# EAGLE library part TDA19988BHN/C1,557 (library Revolve)
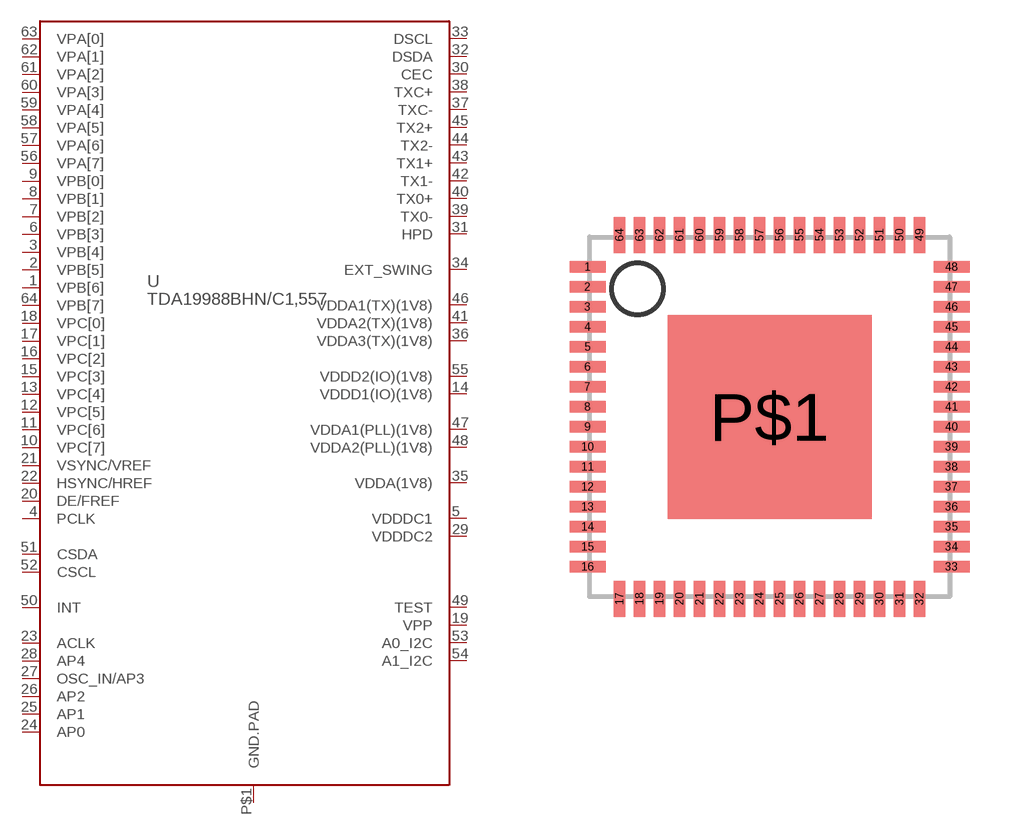
[diagram p8: symbol with the pads of SOT804-4; footprint SOT804-4]

Designator prefix -

## TDA19988BHN/C1,557  [SOT804-4]
1  VPB[6]
2  VPB[5]
3  VPB[4]
4  PCLK
5  VDDDC1
6  VPB[3]
7  VPB[2]
8  VPB[1]
9  VPB[0]
10  VPC[7]
11  VPC[6]
12  VPC[5]
13  VPC[4]
14  VDDD1(IO)(1V8)
15  VPC[3]
16  VPC[2]
17  VPC[1]
18  VPC[0]
19  VPP
20  DE/FREF
21  VSYNC/VREF
22  HSYNC/HREF
23  ACLK
24  AP0
25  AP1
26  AP2
27  OSC_IN/AP3
28  AP4
29  VDDDC2
30  CEC
31  HPD
32  DSDA
33  DSCL
34  EXT_SWING
35  VDDA(1V8)
36  VDDA3(TX)(1V8)
37  TXC-
38  TXC+
39  TX0-
40  TX0+
41  VDDA2(TX)(1V8)
42  TX1-
43  TX1+
44  TX2-
45  TX2+
46  VDDA1(TX)(1V8)
47  VDDA1(PLL)(1V8)
48  VDDA2(PLL)(1V8)
49  TEST
50  INT
51  CSDA
52  CSCL
53  A0_I2C
54  A1_I2C
55  VDDD2(IO)(1V8)
56  VPA[7]
57  VPA[6]
58  VPA[5]
59  VPA[4]
60  VPA[3]
61  VPA[2]
62  VPA[1]
63  VPA[0]
64  VPB[7]
P$1  GND.PAD

## Footprint SOT804-4 (pad centres in mm)
smd 0.9 x 0.29: 1 -4.55,3.75; 2 -4.55,3.25; 3 -4.55,2.75; 4 -4.55,2.25; 5 -4.55,1.75; 6 -4.55,1.25; 7 -4.55,0.75; 8 -4.55,0.25; 9 -4.55,-0.25; 10 -4.55,-0.75; 11 -4.55,-1.25; 12 -4.55,-1.75; 13 -4.55,-2.25; 14 -4.55,-2.75; 15 -4.55,-3.25; 16 -4.55,-3.75; 33 4.55,-3.75; 34 4.55,-3.25; 35 4.55,-2.75; 36 4.55,-2.25; 37 4.55,-1.75; 38 4.55,-1.25; 39 4.55,-0.75; 40 4.55,-0.25; 41 4.55,0.25; 42 4.55,0.75; 43 4.55,1.25; 44 4.55,1.75; 45 4.55,2.25; 46 4.55,2.75; 47 4.55,3.25; 48 4.55,3.75
smd 0.29 x 0.9: 17 -3.75,-4.55; 18 -3.25,-4.55; 19 -2.75,-4.55; 20 -2.25,-4.55; 21 -1.75,-4.55; 22 -1.25,-4.55; 23 -0.75,-4.55; 24 -0.25,-4.55; 25 0.25,-4.55; 26 0.75,-4.55; 27 1.25,-4.55; 28 1.75,-4.55; 29 2.25,-4.55; 30 2.75,-4.55; 31 3.25,-4.55; 32 3.75,-4.55; 49 3.75,4.55; 50 3.25,4.55; 51 2.75,4.55; 52 2.25,4.55; 53 1.75,4.55; 54 1.25,4.55; 55 0.75,4.55; 56 0.25,4.55; 57 -0.25,4.55; 58 -0.75,4.55; 59 -1.25,4.55; 60 -1.75,4.55; 61 -2.25,4.55; 62 -2.75,4.55; 63 -3.25,4.55; 64 -3.75,4.55
smd 5.1 x 5.1: P$1 0,0